# EAGLE library part PIC18F258 (library microcontrollers)
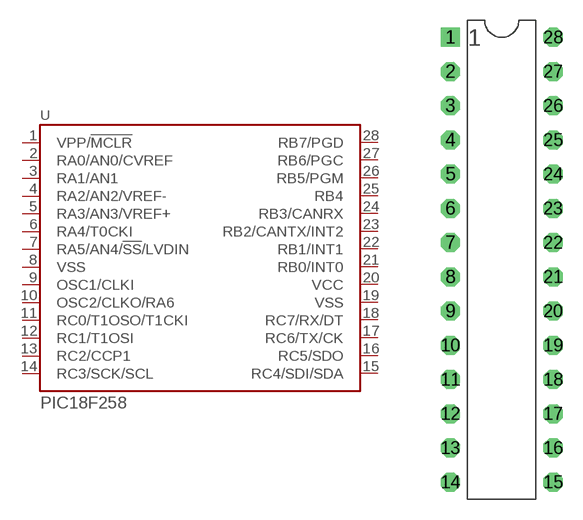
[diagram p7: symbol with the pads of DIL28; footprint DIL28]

Designator prefix U

## PIC18F258  [DIL28]
1  VPP/!MCLR
2  RA0/AN0/CVREF
3  RA1/AN1
4  RA2/AN2/VREF-
5  RA3/AN3/VREF+
6  RA4/T0CKI
7  RA5/AN4/!SS!/LVDIN
8  VSS
9  OSC1/CLKI
10  OSC2/CLKO/RA6
11  RC0/T1OSO/T1CKI
12  RC1/T1OSI
13  RC2/CCP1
14  RC3/SCK/SCL
15  RC4/SDI/SDA
16  RC5/SDO
17  RC6/TX/CK
18  RC7/RX/DT
19  VSS
20  VCC
21  RB0/INT0
22  RB1/INT1
23  RB2/CANTX/INT2
24  RB3/CANRX
25  RB4
26  RB5/PGM
27  RB6/PGC
28  RB7/PGD

## Footprint DIL28 (pad centres in mm)
drill 0.8 pad 1.422 square: 1 -3.81,16.51
drill 0.8 pad 1.422 octagon: 2 -3.81,13.97; 3 -3.81,11.43; 4 -3.81,8.89; 5 -3.81,6.35; 6 -3.81,3.81; 7 -3.81,1.27; 8 -3.81,-1.27; 9 -3.81,-3.81; 10 -3.81,-6.35; 11 -3.81,-8.89; 12 -3.81,-11.43; 13 -3.81,-13.97; 14 -3.81,-16.51; 15 3.81,-16.51; 16 3.81,-13.97; 17 3.81,-11.43; 18 3.81,-8.89; 19 3.81,-6.35; 20 3.81,-3.81; 21 3.81,-1.27; 22 3.81,1.27; 23 3.81,3.81; 24 3.81,6.35; 25 3.81,8.89; 26 3.81,11.43; 27 3.81,13.97; 28 3.81,16.51